# EAGLE library part LM339 (library MIDI Signal Conditioner Parts)
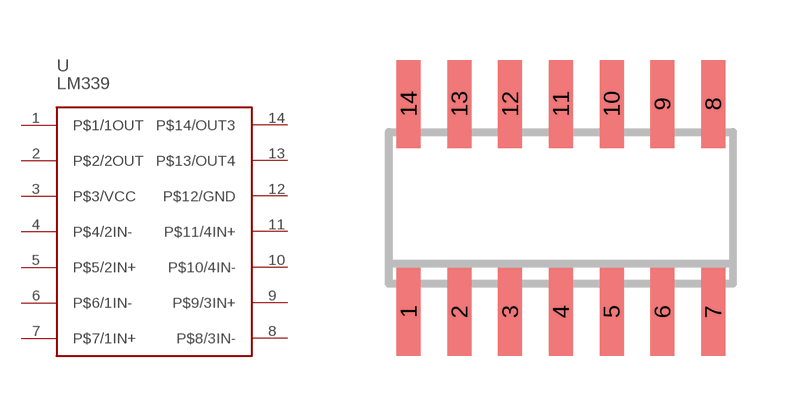
[diagram p8: symbol with the pads of SO14; footprint SO14]

Designator prefix -

## LM339  [SO14]
1  P$1/1OUT
2  P$2/2OUT
3  P$3/VCC
4  P$4/2IN-
5  P$5/2IN+
6  P$6/1IN-
7  P$7/1IN+
8  P$8/3IN-
9  P$9/3IN+
10  P$10/4IN-
11  P$11/4IN+
12  P$12/GND
13  P$13/OUT4
14  P$14/OUT3

## Footprint SO14 (pad centres in mm)
Small Outline Package 14
smd 0.6 x 2.2: 1 -3.81,-2.6; 2 -2.54,-2.6; 3 -1.27,-2.6; 4 0,-2.6; 5 1.27,-2.6; 6 2.54,-2.6; 7 3.81,-2.6; 8 3.81,2.6; 9 2.54,2.6; 10 1.27,2.6; 11 0,2.6; 12 -1.27,2.6; 13 -2.54,2.6; 14 -3.81,2.6